# EAGLE library part LM2651 (library signpost)
High Efficiency DC-DC Switching Regulator 5v to 3v3
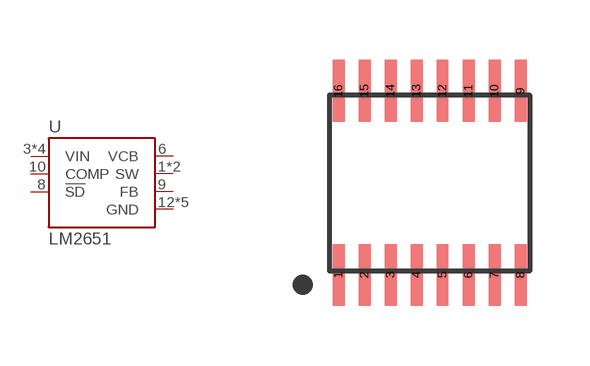
[diagram p21: symbol with the pads of TSSOP-16; footprint TSSOP-16]

Designator prefix U

## LM2651  [TSSOP-16]
1  SW
2  SW
3  VIN
4  VIN
5  VIN
6  VCB
7  VIN
8  !SD
9  FB
10  COMP
12  GND
13  GND
14  GND
15  GND
16  GND

## Footprint TSSOP-16 (pad centres in mm)
smd 0.3 x 1.55: 1 -2.275,-2.3; 2 -1.625,-2.3; 3 -0.975,-2.3; 4 -0.325,-2.3; 5 0.325,-2.3; 6 0.975,-2.3; 7 1.625,-2.3; 8 2.275,-2.3; 9 2.275,2.3; 10 1.625,2.3; 11 0.975,2.3; 12 0.325,2.3; 13 -0.325,2.3; 14 -0.975,2.3; 15 -1.625,2.3; 16 -2.275,2.3